# Altium footprint library LPC175x.PcbLib: 2 footprints
Each footprint in its own frame and in the unit in brackets; x right, y up, seen from the top. Pads: shape width x height; smd on the part's side, far side on the other; paste and mask are expansions set on the pad; w line width, h text height; cw(c..) or ccw(c..) is an arc to the next point about the centre after c.
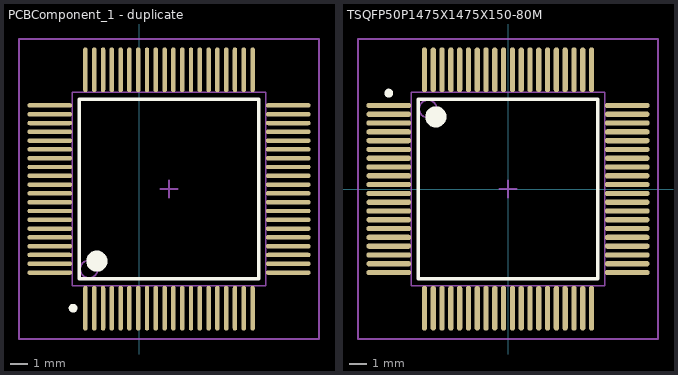
[diagram p0: the footprints below, top view; thin cyan lines are the x and y axes]

## PCBComponent_1 - duplicate [mm]
pads (80):
  oval 0.254x2.55 smd: 1(-3.048,-38.957) 2(-2.548,-38.957) 3(-2.048,-38.957) 4(-1.548,-38.957) 5(-1.048,-38.957) 6(-0.548,-38.957) 7(-0.048,-38.957) 8(0.452,-38.957) 9(0.952,-38.957) 10(1.452,-38.957) 11(1.952,-38.957) 12(2.452,-38.957) 13(2.952,-38.957) 14(3.452,-38.957) 15(3.952,-38.957) 16(4.452,-38.957) 17(4.952,-38.957) 18(5.452,-38.957) 19(5.952,-38.957) 20(6.452,-38.957) 41(6.452,-25.407) 42(5.952,-25.407) 43(5.452,-25.407) 44(4.952,-25.407) 45(4.452,-25.407) 46(3.952,-25.407) 47(3.452,-25.407) 48(2.952,-25.407) 49(2.452,-25.407) 50(1.952,-25.407) 51(1.452,-25.407) 52(0.952,-25.407) 53(0.452,-25.407) 54(-0.048,-25.407) 55(-0.548,-25.407) 56(-1.048,-25.407) 57(-1.548,-25.407) 58(-2.048,-25.407) 59(-2.548,-25.407) 60(-3.048,-25.407)
  oval 2.55x0.254 smd: 21(8.477,-36.932) 22(8.477,-36.432) 23(8.477,-35.932) 24(8.477,-35.432) 25(8.477,-34.932) 26(8.477,-34.432) 27(8.477,-33.932) 28(8.477,-33.432) 29(8.477,-32.932) 30(8.477,-32.432) 31(8.477,-31.932) 32(8.477,-31.432) 33(8.477,-30.932) 34(8.477,-30.432) 35(8.477,-29.932) 36(8.477,-29.432) 37(8.477,-28.932) 38(8.477,-28.432) 39(8.477,-27.932) 40(8.477,-27.432) 61(-5.073,-27.432) 62(-5.073,-27.932) 63(-5.073,-28.432) 64(-5.073,-28.932) 65(-5.073,-29.432) 66(-5.073,-29.932) 67(-5.073,-30.432) 68(-5.073,-30.932) 69(-5.073,-31.432) 70(-5.073,-31.932) 71(-5.073,-32.432) 72(-5.073,-32.932) 73(-5.073,-33.432) 74(-5.073,-33.932) 75(-5.073,-34.432) 76(-5.073,-34.932) 77(-5.073,-35.432) 78(-5.073,-35.932) 79(-5.073,-36.432) 80(-5.073,-36.932)
Top Overlay:
  circle w0.6: c-2.398,-36.282 r0.3
  circle w0.25: c-3.748,-38.957 r0.125
  lines w0.2: -3.398,-37.282 -3.398,-27.082 6.802,-27.082 6.802,-37.282 -3.398,-37.282
Mechanical 13:
  circle w0.1: c-2.848,-36.732 r0.5
  lines w0.1: -3.798,-37.682 -3.798,-26.682 7.202,-26.682 7.202,-37.682 -3.798,-37.682
Mechanical 15:
  lines w0.1: 1.202,-32.182 2.202,-32.182 ; 1.702,-32.682 1.702,-31.682 ; -6.823,-40.707 -6.823,-23.657 10.227,-23.657 10.227,-40.707 -6.823,-40.707
3D body: height 1.5, standoff 0.16, extent -3.798,-37.682 7.202,-26.682

## TSQFP50P1475X1475X150-80M [mm] "TSQFP, 80-Leads, Body 15.0x15.0mm (max), Pitch 0.50mm, IPC Low Density"
height 1.5
pads (80):
  oval 2.55x0.3 smd: 1(-6.775,4.75) 2(-6.775,4.25) 3(-6.775,3.75) 4(-6.775,3.25) 5(-6.775,2.75) 6(-6.775,2.25) 7(-6.775,1.75) 8(-6.775,1.25) 9(-6.775,0.75) 10(-6.775,0.25) 11(-6.775,-0.25) 12(-6.775,-0.75) 13(-6.775,-1.25) 14(-6.775,-1.75) 15(-6.775,-2.25) 16(-6.775,-2.75) 17(-6.775,-3.25) 18(-6.775,-3.75) 19(-6.775,-4.25) 20(-6.775,-4.75) 41(6.775,-4.75) 42(6.775,-4.25) 43(6.775,-3.75) 44(6.775,-3.25) 45(6.775,-2.75) 46(6.775,-2.25) 47(6.775,-1.75) 48(6.775,-1.25) 49(6.775,-0.75) 50(6.775,-0.25) 51(6.775,0.25) 52(6.775,0.75) 53(6.775,1.25) 54(6.775,1.75) 55(6.775,2.25) 56(6.775,2.75) 57(6.775,3.25) 58(6.775,3.75) 59(6.775,4.25) 60(6.775,4.75)
  oval 0.3x2.55 smd: 21(-4.75,-6.775) 22(-4.25,-6.775) 23(-3.75,-6.775) 24(-3.25,-6.775) 25(-2.75,-6.775) 26(-2.25,-6.775) 27(-1.75,-6.775) 28(-1.25,-6.775) 29(-0.75,-6.775) 30(-0.25,-6.775) 31(0.25,-6.775) 32(0.75,-6.775) 33(1.25,-6.775) 34(1.75,-6.775) 35(2.25,-6.775) 36(2.75,-6.775) 37(3.25,-6.775) 38(3.75,-6.775) 39(4.25,-6.775) 40(4.75,-6.775) 61(4.75,6.775) 62(4.25,6.775) 63(3.75,6.775) 64(3.25,6.775) 65(2.75,6.775) 66(2.25,6.775) 67(1.75,6.775) 68(1.25,6.775) 69(0.75,6.775) 70(0.25,6.775) 71(-0.25,6.775) 72(-0.75,6.775) 73(-1.25,6.775) 74(-1.75,6.775) 75(-2.25,6.775) 76(-2.75,6.775) 77(-3.25,6.775) 78(-3.75,6.775) 79(-4.25,6.775) 80(-4.75,6.775)
Top Overlay:
  circle w0.25: c-6.775,5.45 r0.125
  circle w0.6: c-4.1,4.1 r0.3
  lines w0.2: -5.1,-5.1 -5.1,5.1 5.1,5.1 5.1,-5.1 -5.1,-5.1
Mechanical 13:
  circle w0.1: c-4.55,4.55 r0.5
  lines w0.1: -5.5,-5.5 -5.5,5.5 5.5,5.5 5.5,-5.5 -5.5,-5.5
Mechanical 15:
  lines w0.1: -0.5,0 0.5,0 ; 0,-0.5 0,0.5 ; -8.525,-8.525 -8.525,8.525 8.525,8.525 8.525,-8.525 -8.525,-8.525
3D body: height 1.5, standoff 0.16, extent -5.5,-5.5 5.5,5.5